# EAGLE library part ATMEGA328 (library IC_Embedded)
8-bit AVR Microcontroller with 32K Bytes In-System Programmable Flash Datasheet <http://ww1.microchip.com/downloads/en/DeviceDoc/ATmega48A-PA-88A-PA-168A-PA-328-P-DS-DS40002061A.pdf>
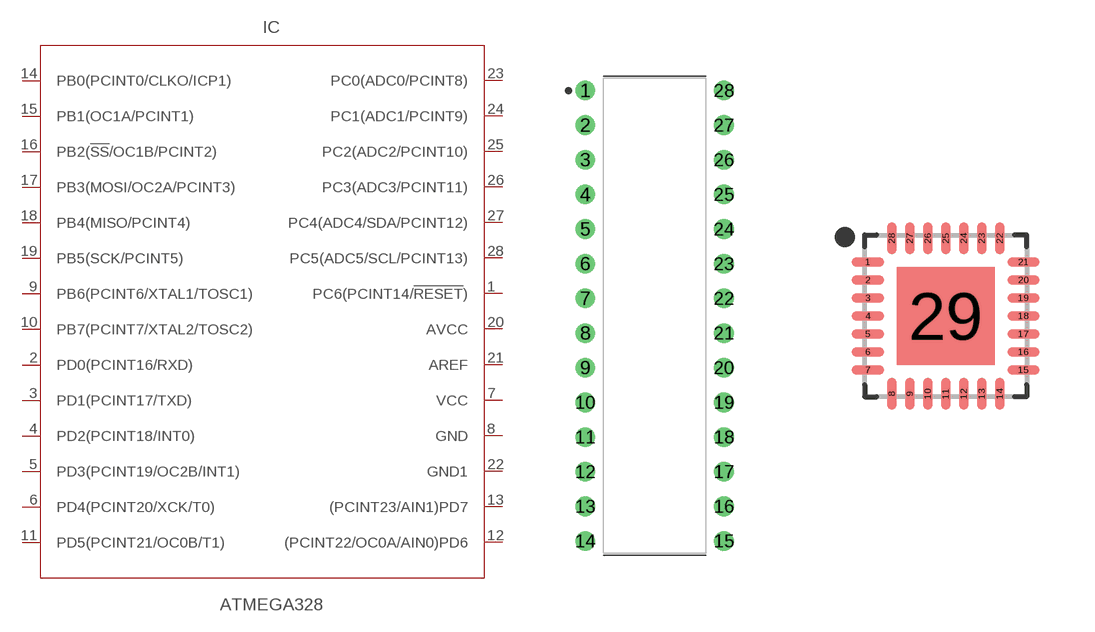
[diagram p7: symbol with the pads of DIP1016W53P254L3467H457Q28B; footprints DIP1016W53P254L3467H457Q28B, QFN45P400X400X100-29T245N]

Designator prefix IC

## ATMEGA328_DIP (CATEGORY: IC_Embedded; MANUFACTURER: Microchip Technologies; MPN: ATmega328-PN; OPERATING_TEMP: –40 to +105°C; PART_STATUS: Active; SUB-CATEGORY: Microcontroller; VALUE: ATMEGA328)  [DIP1016W53P254L3467H457Q28B]
1  PC6(PCINT14/!RESET!)
2  PD0(PCINT16/RXD)
3  PD1(PCINT17/TXD)
4  PD2(PCINT18/INT0)  in
5  PD3(PCINT19/OC2B/INT1)  in
6  PD4(PCINT20/XCK/T0)  in
7  VCC  pwr
8  GND  pas
9  PB6(PCINT6/XTAL1/TOSC1)  in
10  PB7(PCINT7/XTAL2/TOSC2)  in
11  PD5(PCINT21/OC0B/T1)
12  (PCINT22/OC0A/AIN0)PD6
13  (PCINT23/AIN1)PD7
14  PB0(PCINT0/CLKO/ICP1)
15  PB1(OC1A/PCINT1)
16  PB2(!SS!/OC1B/PCINT2)
17  PB3(MOSI/OC2A/PCINT3)
18  PB4(MISO/PCINT4)
19  PB5(SCK/PCINT5)
20  AVCC  pwr
21  AREF  pwr
22  GND1  pas
23  PC0(ADC0/PCINT8)  in
24  PC1(ADC1/PCINT9)  in
25  PC2(ADC2/PCINT10)  in
26  PC3(ADC3/PCINT11)  in
27  PC4(ADC4/SDA/PCINT12)  in
28  PC5(ADC5/SCL/PCINT13)  in

## ATMEGA328_QFN (CATEGORY: IC_Embedded; MANUFACTURER: Microchip; MPN: ATmega328-MMH; OPERATING_TEMP: -40°C to 85°C; PART_STATUS: Active; SUB-CATEGORY: Microcontroller; VALUE: ATMEGA328)  [QFN45P400X400X100-29T245N]
1  PD3(PCINT19/OC2B/INT1)  in
2  PD4(PCINT20/XCK/T0)  in
3  VCC  pwr
4  GND  pas
5  PB6(PCINT6/XTAL1/TOSC1)  in
6  PB7(PCINT7/XTAL2/TOSC2)  in
7  PD5(PCINT21/OC0B/T1)
8  (PCINT22/OC0A/AIN0)PD6
9  (PCINT23/AIN1)PD7
10  PB0(PCINT0/CLKO/ICP1)
11  PB1(OC1A/PCINT1)
12  PB2(!SS!/OC1B/PCINT2)
13  PB3(MOSI/OC2A/PCINT3)
14  PB4(MISO/PCINT4)
15  PB5(SCK/PCINT5)
16  AVCC  pwr
17  AREF  pwr
18  GND1  pas
19  PC0(ADC0/PCINT8)  in
20  PC1(ADC1/PCINT9)  in
21  PC2(ADC2/PCINT10)  in
22  PC3(ADC3/PCINT11)  in
23  PC4(ADC4/SDA/PCINT12)  in
24  PC5(ADC5/SCL/PCINT13)  in
25  PC6(PCINT14/!RESET!)
26  PD0(PCINT16/RXD)
27  PD1(PCINT17/TXD)
28  PD2(PCINT18/INT0)  in

## Footprint DIP1016W53P254L3467H457Q28B (pad centres in mm)
28-DIP, 2.54 mm (0.10 in) pitch, 10.16 mm (0.40 in) span, 34.67 X 7.30 X 4.57 mm body 28-pin DIP package with 2.54 mm (0.10 in) pitch, 10.16 mm (0.40 in) span with body size 34.67 X 7.30 X 4.57 mm
drill 0.841 pad 1.441: 1 -5.08,16.51; 2 -5.08,13.97; 3 -5.08,11.43; 4 -5.08,8.89; 5 -5.08,6.35; 6 -5.08,3.81; 7 -5.08,1.27; 8 -5.08,-1.27; 9 -5.08,-3.81; 10 -5.08,-6.35; 11 -5.08,-8.89; 12 -5.08,-11.43; 13 -5.08,-13.97; 14 -5.08,-16.51; 15 5.08,-16.51; 16 5.08,-13.97; 17 5.08,-11.43; 18 5.08,-8.89; 19 5.08,-6.35; 20 5.08,-3.81; 21 5.08,-1.27; 22 5.08,1.27; 23 5.08,3.81; 24 5.08,6.35; 25 5.08,8.89; 26 5.08,11.43; 27 5.08,13.97; 28 5.08,16.51

## Footprint QFN45P400X400X100-29T245N (pad centres in mm)
28-QFN, 0.45 mm pitch, 4.00 X 4.00 X 1.00 mm body, 2.45 X 2.45 mm thermal pad 28-pin QFN package with 0.45 mm pitch with body size 4.00 X 4.00 X 1.00 mm and thermal pad size 2.45 X 2.45 mm
smd 0.81 x 0.24: 1 -1.945,1.35; 2 -1.945,0.9; 3 -1.945,0.45; 4 -1.945,0; 5 -1.945,-0.45; 6 -1.945,-0.9; 7 -1.945,-1.35; 15 1.945,-1.35; 16 1.945,-0.9; 17 1.945,-0.45; 18 1.945,0; 19 1.945,0.45; 20 1.945,0.9; 21 1.945,1.35
smd 0.24 x 0.81: 8 -1.35,-1.945; 9 -0.9,-1.945; 10 -0.45,-1.945; 11 0,-1.945; 12 0.45,-1.945; 13 0.9,-1.945; 14 1.35,-1.945; 22 1.35,1.945; 23 0.9,1.945; 24 0.45,1.945; 25 0,1.945; 26 -0.45,1.945; 27 -0.9,1.945; 28 -1.35,1.945
smd 2.45 x 2.45: 29 0,0